# Altium schematic symbol library micro-infineon.SCHLIB: 1 symbol
Pins are listed as number, name and electrical type; pins without a type are passive.

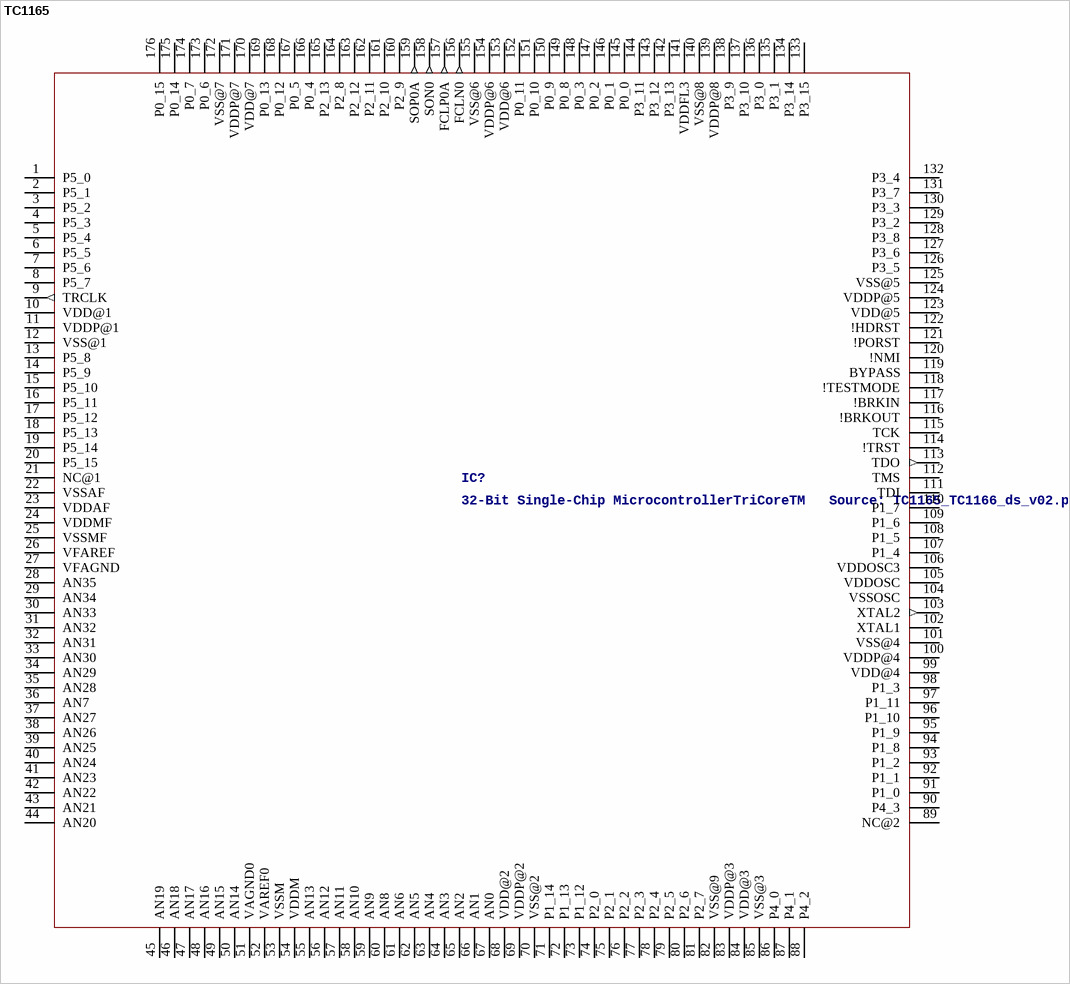
[diagram p0: symbol TC1165]

## TC1165
designator IC?, comment 32-Bit Single-Chip MicrocontrollerTriCoreTM   Source: TC1165_TC1166_ds_v02.pdf
MPN: SAF-TC1161-128F66HL; OC_FARNELL: 1472713; OC_NEWARK: 61M9592
footprint PG-LQFP-176-2
pins: 1 P5_0, 2 P5_1, 3 P5_2, 4 P5_3, 5 P5_4, 6 P5_5, 7 P5_6, 8 P5_7, 9 TRCLK (out), 10 VDD@1 (power), 11 VDDP@1 (power), 12 VSS@1 (power), 13 P5_8, 14 P5_9, 15 P5_10, 16 P5_11, 17 P5_12, 18 P5_13, 19 P5_14, 20 P5_15, 21 NC@1, 22 VSSAF (power), 23 VDDAF (power), 24 VDDMF (power), 25 VSSMF (power), 26 VFAREF (power), 27 VFAGND (power), 28 AN35, 29 AN34, 30 AN33, 31 AN32, 32 AN31, 33 AN30, 34 AN29, 35 AN28, 36 AN7, 37 AN27, 38 AN26, 39 AN25, 40 AN24, 41 AN23, 42 AN22, 43 AN21, 44 AN20, 45 AN19, 46 AN18, 47 AN17, 48 AN16, 49 AN15, 50 AN14, 51 VAGND0 (power), 52 VAREF0 (power), 53 VSSM (power), 54 VDDM (power), 55 AN13, 56 AN12, 57 AN11, 58 AN10, 59 AN9, 60 AN8, 61 AN6, 62 AN5, 63 AN4, 64 AN3, 65 AN2, 66 AN1, 67 AN0, 68 VDD@2 (power), 69 VDDP@2 (power), 70 VSS@2 (power), 71 P1_14, 72 P1_13, 73 P1_12, 74 P2_0, 75 P2_1, 76 P2_2, 77 P2_3, 78 P2_4, 79 P2_5, 80 P2_6, 81 P2_7, 82 VSS@9 (power), 83 VDDP@3 (power), 84 VDD@3 (power), 85 VSS@3 (power), 86 P4_0, 87 P4_1, 88 P4_2, 89 NC@2, 90 P4_3, 91 P1_0, 92 P1_1, 93 P1_2, 94 P1_8, 95 P1_9, 96 P1_10, 97 P1_11, 98 P1_3, 99 VDD@4 (power), 100 VDDP@4 (power), 101 VSS@4 (power), 102 XTAL1, 103 XTAL2 (out), 104 VSSOSC (power), 105 VDDOSC (power), 106 VDDOSC3 (power), 107 P1_4, 108 P1_5, 109 P1_6, 110 P1_7, 111 TDI, 112 TMS, 113 TDO (out), 114 !TRST, 115 TCK, 116 !BRKOUT, 117 !BRKIN, 118 !TESTMODE, 119 BYPASS, 120 !NMI, 121 !PORST, 122 !HDRST, 123 VDD@5 (power), 124 VDDP@5 (power), 125 VSS@5 (power), 126 P3_5, 127 P3_6, 128 P3_8, 129 P3_2, 130 P3_3, 131 P3_7, 132 P3_4, 133 P3_15, 134 P3_14, 135 P3_1, 136 P3_0, 137 P3_10, 138 P3_9, 139 VDDP@8 (power), 140 VSS@8 (power), 141 VDDFL3 (power), 142 P3_13, 143 P3_12, 144 P3_11, 145 P0_0, 146 P0_1, 147 P0_2, 148 P0_3, 149 P0_8, 150 P0_9, 151 P0_10, 152 P0_11, 153 VDD@6 (power), 154 VDDP@6 (power), 155 VSS@6 (power), 156 FCLN0 (out), 157 FCLP0A (out), 158 SON0 (out), 159 SOP0A (out), 160 P2_9, 161 P2_10, 162 P2_11, 163 P2_12, 164 P2_8, 165 P2_13, 166 P0_4, 167 P0_5, 168 P0_12, 169 P0_13, 170 VDD@7 (power), 171 VDDP@7 (power), 172 VSS@7 (power), 173 P0_6, 174 P0_7, 175 P0_14, 176 P0_15